# Altium integrated library MD9927.IntLib: 1 symbol
Pins are listed as number, name and electrical type; pins without a type are passive.

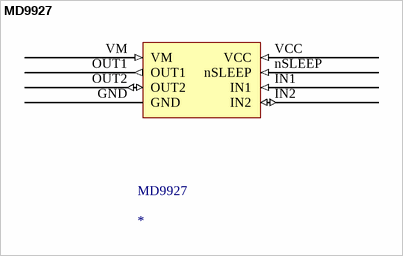
[diagram p0: symbol MD9927]

## MD9927
designator MD9927
footprint MD9927
pins: GND, IN1 (in), IN2 (io), nSLEEP (in), OUT1 (out), OUT2 (io), VCC (in), VM (in)